# Altium schematic symbol library GX12L-5.SchLib: 1 symbol
Pins are listed as number, name and electrical type; pins without a type are passive.

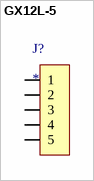
[diagram p0: symbol GX12L-5]

## GX12L-5
designator J?
pins: 2 1, 3 2, 3, 4, 5